# Altium schematic symbol library GasDischargeTube.SchLib: 1 symbol
Pins are listed as number, name and electrical type; pins without a type are passive.

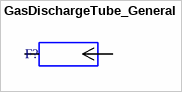
[diagram p0: symbol GasDischargeTube_General]

## GasDischargeTube_General
designator F?
Газовый разрядник
pins: 1, 2 5